# EAGLE library part WE-RJ45_LAN_10/100_BASET_POE+ (library Wuerth_Elektronik_eiSos_ v6.8)
WE-RJ45 LAN Transformer 10/100 BaseT PoE+ - RJ45 connector with integrated transformer common mode choke - 350 µH min.OCL with 600 mA bias - Complies with IEEE 802.3 - Extended temperature range from 0°C to +70°C available -- ADSL Modem -- Embedded PC -- LAN network applications -- Hub, Router, Switches
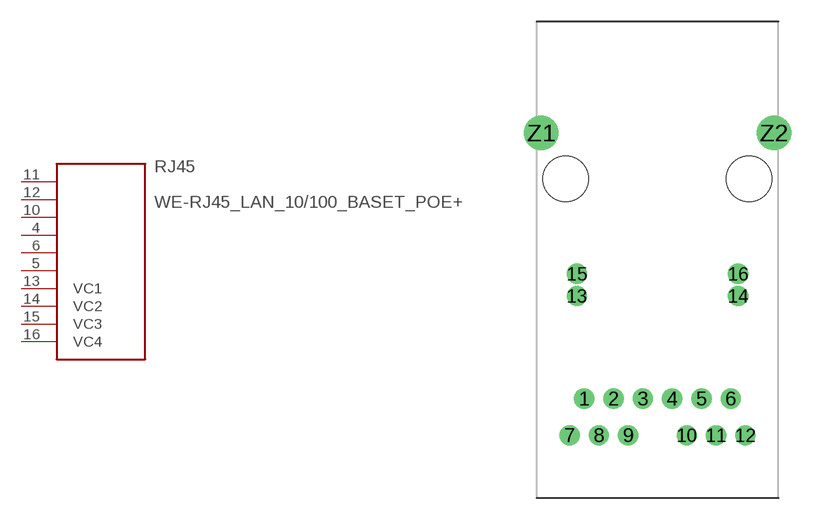
[diagram p96: symbol with the pads of WE-RJ45_LAN_10/100_BASET_7499411000; footprint WE-RJ45_LAN_10/100_BASET_7499411000]

Designator prefix RJ45

## WE-RJ45_LAN_10/100_BASET_POE+_7499411000  [WE-RJ45_LAN_10/100_BASET_7499411000]
4  4  pas
5  6  pas
6  5  pas
10  3  pas
11  1  pas
12  2  pas
13  VC1  pas
14  VC2  pas
15  VC3  pas
16  VC4  pas

## Footprint WE-RJ45_LAN_10/100_BASET_7499411000 (pad centres in mm)
WE-RJ45 LAN Transformer 10/100 BaseT, PoE+
drill 0.9 round: 1 -5.075,-15.24; 2 -3.045,-15.24; 3 -1.015,-15.24; 4 1.015,-15.24; 5 3.045,-15.24; 6 5.075,-15.24; 7 -6.09,-17.78; 8 -4.06,-17.78; 9 -2.03,-17.78; 10 2.03,-17.78; 11 4.06,-17.78; 12 6.09,-17.78; 13 -5.59,-8.12; 14 5.59,-8.12; 15 -5.59,-6.59; 16 5.59,-6.59
drill 1.6 round: Z1 -8.065,3.18; Z2 8.065,3.18
hole 3.15 at 6.35,0
hole 3.15 at -6.35,0